# EAGLE library part AT45DB321D (library X893)
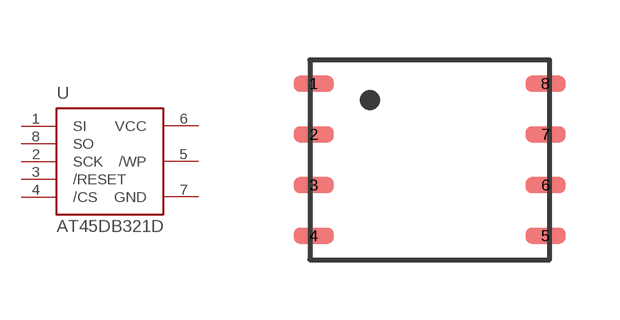
[diagram p29: symbol with the pads of MLF/VDFN-8(6X5); footprint MLF/VDFN-8(6X5)]

Designator prefix U

## AT45DB321D-MU  [MLF/VDFN-8(6X5)]
1  SI  in
2  SCK  in
3  /RESET  in
4  /CS  in
5  /WP  in
6  VCC  pas
7  GND  sup
8  SO  out

## Footprint MLF/VDFN-8(6X5) (pad centres in mm)
smd 1 x 0.4: 1 -2.9,1.905; 2 -2.9,0.635; 3 -2.9,-0.635; 4 -2.9,-1.905; 5 2.9,-1.905; 6 2.9,-0.635; 7 2.9,0.635; 8 2.9,1.905